# EAGLE library part ST7789 (library ME433_HW6_lib)
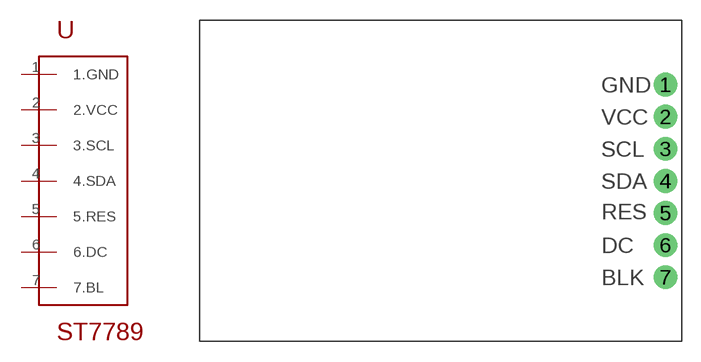
[diagram p9: symbol with the pads of ST7789; footprint ST7789]

Designator prefix -

## ST7789  [ST7789]
1  1.GND
2  2.VCC
3  3.SCL
4  4.SDA
5  5.RES
6  6.DC
7  7.BL

## Footprint ST7789 (pad centres in mm)
drill 1.016 pad 1.88: 1 0,7.62; 2 0,5.08; 3 0,2.54; 4 0,0; 5 0,-2.54; 6 0,-5.08; 7 0,-7.62